# Altium schematic symbol library SamacSys_Parts.SchLib: 11 symbols
Pins are listed as number, name and electrical type; pins without a type are passive.

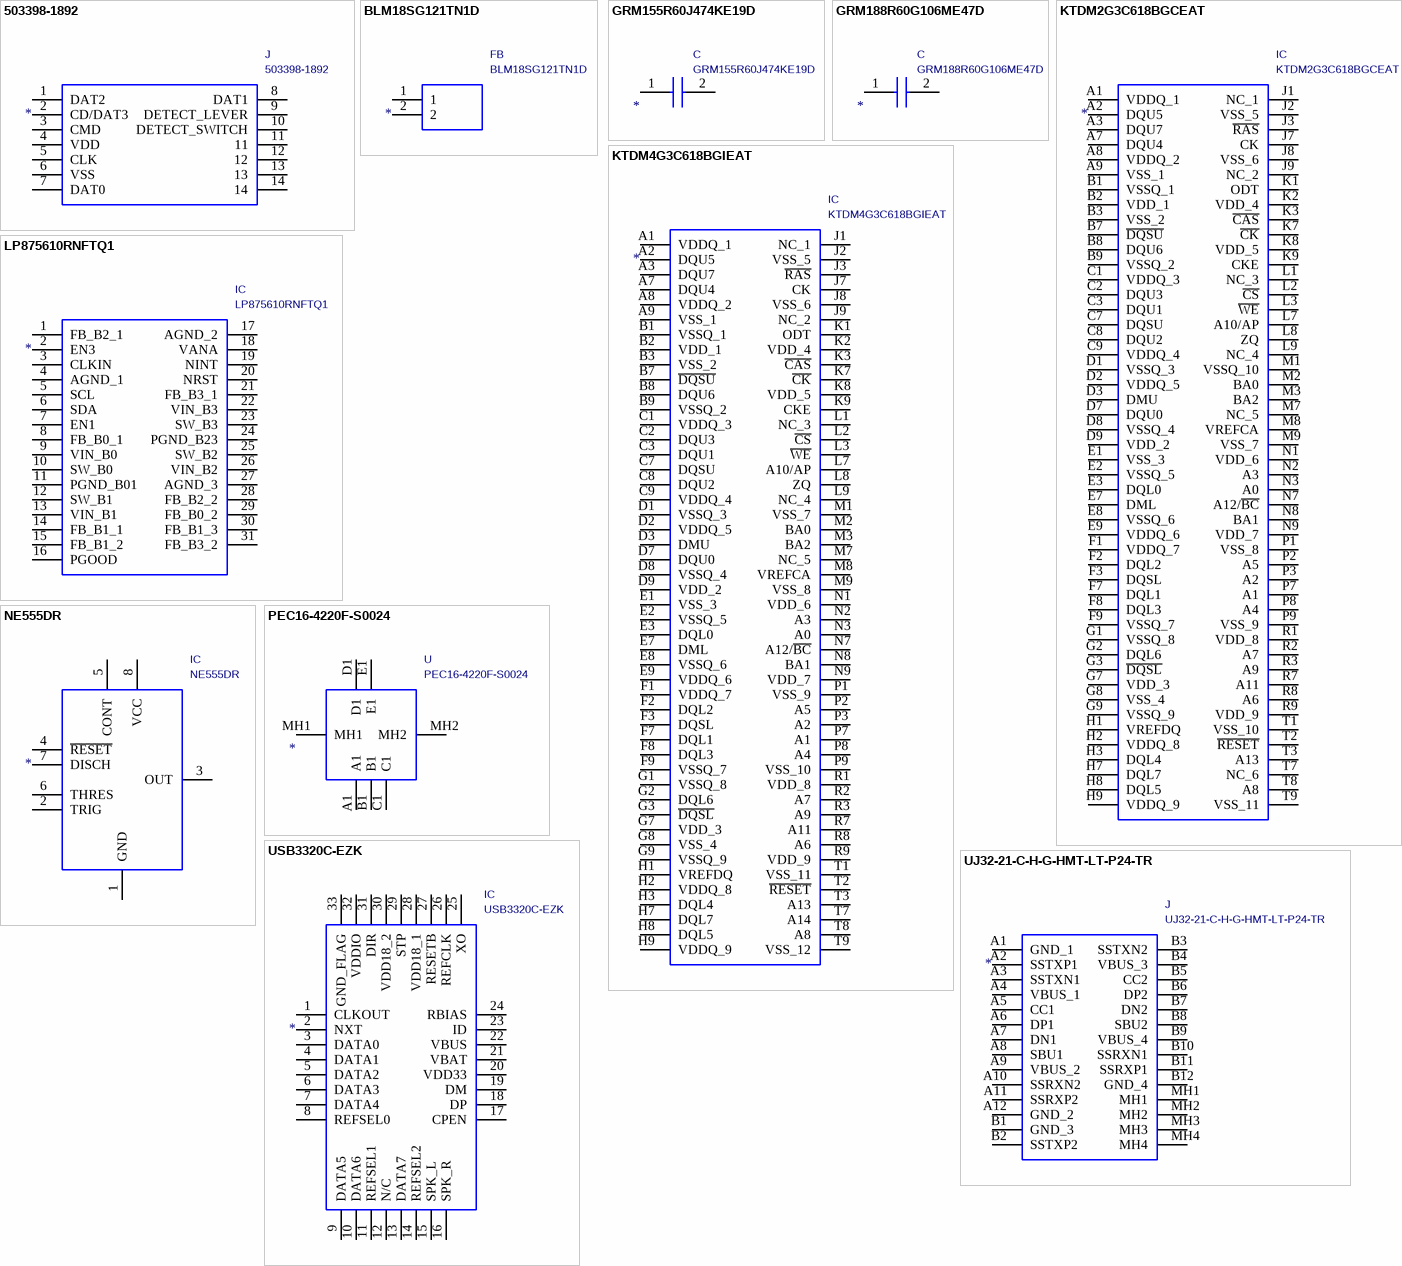
[diagram p0: symbols 503398-1892 to USB3320C-EZK]

## 503398-1892
designator J  value 503398-1892
MicroSD SMT Push-Push 1.28mm height MicroSD SMT Push-Push 1.28mm height; Manufacturer_Name: Molex; Footprint: 5033981892; Supplier: http://www.molex.com/webdocs/datasheets/pdf/en-us//5033981892_MEMORY_CARD_SOCKET.pdf; Description_: MicroSD SMT Push-Push 1.28mm height MicroSD SMT Push-Push 1.28mm height; Height: 1.28; Mouser Part Number: 538-503398-1892; Mouser Price/Stock: https://www.mouser.co.uk/ProductDetail/Molex/503398-1892?qs=b0v8CoHHvSMxV%252BW12iKaSg%3D%3D; Manufacturer_Part_Number: 503398-1892
footprint 5033981892
pins: 1 DAT2, 2 CD/DAT3, 3 CMD, 4 VDD, 5 CLK, 6 VSS, 7 DAT0, 8 DAT1, 9 DETECT_LEVER, 10 DETECT_SWITCH, 11, 12, 13, 14

## BLM18SG121TN1D
designator FB  value BLM18SG121TN1D
Ferrite bead SMD 0603 120R 3A Murata Ferrite Bead (Chip Bead), 1.6 x 0.8 x 0.5mm (0603), 120 impedance at 100 MHz; Manufacturer_Name: Murata Electronics; Footprint: BLM18EG101TH1D; Supplier: http://www.murata.com/~/media/webrenewal/support/library/catalog/products/emc/emifil/c31e.ashx?la=en-gb; Description_: Ferrite bead SMD 0603 120R 3A Murata Ferrite Bead (Chip Bead), 1.6 x 0.8 x 0.5mm (0603), 120 impedance at 100 MHz; Height: 0.75; Mouser Part Number: 81-BLM18SG121TN1D; Mouser Price/Stock: https://www.mouser.co.uk/ProductDetail/Murata-Electronics/BLM18SG121TN1D?qs=OMB6gcCnelWdy%252B7xRA0fBw%3D%3D; Manufacturer_Part_Number: BLM18SG121TN1D
footprint BLM18EG101TH1D
pins: 1, 2

## GRM155R60J474KE19D
designator C  value GRM155R60J474KE19D
Cap, Ceramic,0402, 470nF 6.3V Murata 0402 GRM 470nF Ceramic Multilayer Capacitor, 6.3 V dc, +85C, X5R Dielectric, +/-10% SMD; Manufacturer_Name: Murata Electronics; Footprint: CAPC1005X70N; Supplier: https://search.murata.co.jp/Ceramy/image/img/A01X/G101/ENG/GRM155R60J474KE19-01A.pdf; Description_: Cap, Ceramic,0402, 470nF 6.3V Murata 0402 GRM 470nF Ceramic Multilayer Capacitor, 6.3 V dc, +85C, X5R Dielectric, +/-10% SMD; Height: 0.7; Mouser Part Number: 81-GRM155R60J474KE9D; Mouser Price/Stock: https://www.mouser.co.uk/ProductDetail/Murata-Electronics/GRM155R60J474KE19D?qs=5bAuhL3RhmN9%252Bhy3sCalLA%3D%3D; Manufacturer_Part_Number: GRM155R60J474KE19D
footprint CAPC1005X70N
pins: 1, 2

## GRM188R60G106ME47D
designator C  value GRM188R60G106ME47D
Murata 0603 GRM 10uF Ceramic Multilayer Capacitor, 4 V dc, +85C, X5R Dielectric, +/-20%; Manufacturer_Name: Murata Electronics; Footprint: CAPC1608X90N; Supplier: https://search.murata.co.jp/Ceramy/image/img/A01X/G101/ENG/GRM188R60G106ME47-01ZA.pdf; Description_: Murata 0603 GRM 10uF Ceramic Multilayer Capacitor, 4 V dc, +85C, X5R Dielectric, +/-20%; Height: 0.9; Mouser Part Number: 81-GRM188R60G106ME47; Mouser Price/Stock: https://www.mouser.co.uk/ProductDetail/Murata-Electronics/GRM188R60G106ME47D?qs=dddcrN876GrkTI%252BtNGmhwA%3D%3D; Manufacturer_Part_Number: GRM188R60G106ME47D
footprint CAPC1608X90N
pins: 1, 2

## KTDM2G3C618BGCEAT
designator IC  value KTDM2G3C618BGCEAT
2Gb DDR3 SDRAM 128Mbx16 96-FBGA Commercial Temp; Manufacturer_Name: SMARTsemi; Footprint: BGA96C80P9X16_750X1300X100; Supplier: https://smartsemi.staging.multicomma.com/wp-content/uploads/2022/07/SMARTsemi_DS_KTDM2G3C618BGxEAT_rev1.0.pdf; Description_: 2Gb DDR3 SDRAM 128Mbx16 96-FBGA Commercial Temp; Height: 1; Manufacturer_Part_Number: KTDM2G3C618BGCEAT
footprint BGA96C80P9X16_750X1300X100
pins: A1 VDDQ_1, A2 DQU5, A3 DQU7, A7 DQU4, A8 VDDQ_2, A9 VSS_1, B1 VSSQ_1, B2 VDD_1, B3 VSS_2, B7 ~{DQSU}, B8 DQU6, B9 VSSQ_2, C1 VDDQ_3, C2 DQU3, C3 DQU1, C7 DQSU, C8 DQU2, C9 VDDQ_4, D1 VSSQ_3, D2 VDDQ_5, D3 DMU, D7 DQU0, D8 VSSQ_4, D9 VDD_2, E1 VSS_3, E2 VSSQ_5, E3 DQL0, E7 DML, E8 VSSQ_6, E9 VDDQ_6, F1 VDDQ_7, F2 DQL2, F3 DQSL, F7 DQL1, F8 DQL3, F9 VSSQ_7, G1 VSSQ_8, G2 DQL6, G3 ~{DQSL}, G7 VDD_3, G8 VSS_4, G9 VSSQ_9, H1 VREFDQ, H2 VDDQ_8, H3 DQL4, H7 DQL7, H8 DQL5, H9 VDDQ_9, J1 NC_1, J2 VSS_5, J3 ~{RAS}, J7 CK, J8 VSS_6, J9 NC_2, K1 ODT, K2 VDD_4, K3 ~{CAS}, K7 ~{CK}, K8 VDD_5, K9 CKE, L1 NC_3, L2 ~{CS}, L3 ~{WE}, L7 A10/AP, L8 ZQ, L9 NC_4, M1 VSSQ_10, M2 BA0, M3 BA2, M7 NC_5, M8 VREFCA, M9 VSS_7, N1 VDD_6, N2 A3, N3 A0, N7 A12/~{BC}, N8 BA1, N9 VDD_7, P1 VSS_8, P2 A5, P3 A2, P7 A1, P8 A4, P9 VSS_9, R1 VDD_8, R2 A7, R3 A9, R7 A11, R8 A6, R9 VDD_9, T1 VSS_10, T2 ~{RESET}, T3 A13, T7 NC_6, T8 A8, T9 VSS_11

## KTDM4G3C618BGIEAT
designator IC  value KTDM4G3C618BGIEAT
4Gb DDR3 SDRAM 256Mbx16 96-FBGA Industrial Temp; Manufacturer_Name: SMARTsemi; Footprint: BGA96C80P9X16_750X1300X100; Supplier: https://smartsemi.staging.multicomma.com/wp-content/uploads/2022/07/SMARTsemi_DS_KTDM4G3C618BGxEAT_rev1.0.pdf; Description_: 4Gb DDR3 SDRAM 256Mbx16 96-FBGA Industrial Temp; Height: 1; Mouser Part Number: 473-M4G3C618BGIEAT; Mouser Price/Stock: https://www.mouser.co.uk/ProductDetail/SMARTsemi/KTDM4G3C618BGIEAT?qs=By6Nw2ByBD1H5%252BQ37Z8mNQ%3D%3D; Manufacturer_Part_Number: KTDM4G3C618BGIEAT
footprint BGA96C80P9X16_750X1300X100
pins: A1 VDDQ_1, A2 DQU5, A3 DQU7, A7 DQU4, A8 VDDQ_2, A9 VSS_1, B1 VSSQ_1, B2 VDD_1, B3 VSS_2, B7 ~{DQSU}, B8 DQU6, B9 VSSQ_2, C1 VDDQ_3, C2 DQU3, C3 DQU1, C7 DQSU, C8 DQU2, C9 VDDQ_4, D1 VSSQ_3, D2 VDDQ_5, D3 DMU, D7 DQU0, D8 VSSQ_4, D9 VDD_2, E1 VSS_3, E2 VSSQ_5, E3 DQL0, E7 DML, E8 VSSQ_6, E9 VDDQ_6, F1 VDDQ_7, F2 DQL2, F3 DQSL, F7 DQL1, F8 DQL3, F9 VSSQ_7, G1 VSSQ_8, G2 DQL6, G3 ~{DQSL}, G7 VDD_3, G8 VSS_4, G9 VSSQ_9, H1 VREFDQ, H2 VDDQ_8, H3 DQL4, H7 DQL7, H8 DQL5, H9 VDDQ_9, J1 NC_1, J2 VSS_5, J3 ~{RAS}, J7 CK, J8 VSS_6, J9 NC_2, K1 ODT, K2 VDD_4, K3 ~{CAS}, K7 ~{CK}, K8 VDD_5, K9 CKE, L1 NC_3, L2 ~{CS}, L3 ~{WE}, L7 A10/AP, L8 ZQ, L9 NC_4, M1 VSS_7, M2 BA0, M3 BA2, M7 NC_5, M8 VREFCA, M9 VSS_8, N1 VDD_6, N2 A3, N3 A0, N7 A12/~{BC}, N8 BA1, N9 VDD_7, P1 VSS_9, P2 A5, P3 A2, P7 A1, P8 A4, P9 VSS_10, R1 VDD_8, R2 A7, R3 A9, R7 A11, R8 A6, R9 VDD_9, T1 VSS_11, T2 ~{RESET}, T3 A13, T7 A14, T8 A8, T9 VSS_12

## LP875610RNFTQ1
designator IC  value LP875610RNFTQ1
Four-phase 16-A buck converter with integrated switches; Manufacturer_Name: Texas Instruments; Footprint: LP87524TRNFRQ1; Supplier: http://www.ti.com/lit/gpn/LP87561-Q1; Description_: Four-phase 16-A buck converter with integrated switches; Height: 0.9; Manufacturer_Part_Number: LP875610RNFTQ1; Mouser Part Number: 595-LP875610RNFTQ1; Mouser Price/Stock: https://www.mouser.co.uk/ProductDetail/Texas-Instruments/LP875610RNFTQ1?qs=gZXFycFWdANDzNJ%2FVznnWQ%3D%3D
footprint LP87524TRNFRQ1
pins: 1 FB_B2_1, 2 EN3, 3 CLKIN, 4 AGND_1, 5 SCL, 6 SDA, 7 EN1, 8 FB_B0_1, 9 VIN_B0, 10 SW_B0, 11 PGND_B01, 12 SW_B1, 13 VIN_B1, 14 FB_B1_1, 15 FB_B1_2, 16 PGOOD, 17 AGND_2, 18 VANA, 19 NINT, 20 NRST, 21 FB_B3_1, 22 VIN_B3, 23 SW_B3, 24 PGND_B23, 25 SW_B2, 26 VIN_B2, 27 AGND_3, 28 FB_B2_2, 29 FB_B0_2, 30 FB_B1_3, 31 FB_B3_2

## NE555DR
designator IC  value NE555DR
Single Precision Timer; Manufacturer_Name: Texas Instruments; Footprint: SOIC127P600X175-8N; Supplier: http://www.ti.com/lit/ds/symlink/ne555.pdf; Description_: Single Precision Timer; Height: 1.75; Manufacturer_Part_Number: NE555DR; Mouser Part Number: 595-NE555DR; Mouser Price/Stock: https://www.mouser.com/Search/Refine.aspx?Keyword=595-NE555DR; RS Part Number: 1218414; RS Price/Stock: http//uk.rs-online.com/web/p/products/1218414
footprint SOIC127P600X175-8N
pins: 1 GND, 2 TRIG, 3 OUT, 4 ~{RESET}, 5 CONT, 6 THRES, 7 DISCH, 8 VCC

## PEC16-4220F-S0024
designator U  value PEC16-4220F-S0024
Bourns Encoder 24ppr ppr 5 V dc; Footprint: PEC164120FS0012; Supplier: https://www.bourns.com/pdfs/PEC16.pdf; Description_: Bourns Encoder 24ppr ppr 5 V dc; Height: 28; Mouser Part Number: 652-PEC16-4220FS0024; Mouser Price/Stock: https://www.mouser.co.uk/ProductDetail/Bourns/PEC16-4220F-S0024?qs=6FD5PBp7ZtQte%252Bg7b%2FiMUw%3D%3D; Manufacturer_Name: Bourns; Manufacturer_Part_Number: PEC16-4220F-S0024
footprint PEC164120FS0012
pins: A1, B1, C1, D1, E1, MH1, MH2

## UJ32-21-C-H-G-HMT-LT-P24-TR
designator J  value UJ32-21-C-H-G-HMT-LT-P24-TR
Type C, USB 3.2 Gen 2x1, 10 Gbps, 20 Vdc, 5 A, Horizontal, Hybrid Mount, Long Anchor Pins, Hybrid Contacts, Gold Flash, 24 Pins, USB Receptacle; Manufacturer_Name: Same Sky; Footprint: UJ3221CHGHMTLTP24TR; Supplier: https://www.sameskydevices.com/product/resource/uj32-21-c-h-g-hmt-lt-p24-tr.pdf; Description_: Type C, USB 3.2 Gen 2x1, 10 Gbps, 20 Vdc, 5 A, Horizontal, Hybrid Mount, Long Anchor Pins, Hybrid Contacts, Gold Flash, 24 Pins, USB Receptacle; Height: 3.51; Manufacturer_Part_Number: UJ32-21-C-H-G-HMT-LT-P24-TR
footprint UJ3221CHGHMTLTP24TR
pins: A1 GND_1, A2 SSTXP1, A3 SSTXN1, A4 VBUS_1, A5 CC1, A6 DP1, A7 DN1, A8 SBU1, A9 VBUS_2, A10 SSRXN2, A11 SSRXP2, A12 GND_2, B1 GND_3, B2 SSTXP2, B3 SSTXN2, B4 VBUS_3, B5 CC2, B6 DP2, B7 DN2, B8 SBU2, B9 VBUS_4, B10 SSRXN1, B11 SSRXP1, B12 GND_4, MH1, MH2, MH3, MH4

## USB3320C-EZK
designator IC  value USB3320C-EZK
USB Interface IC Hi-Speed USB 2.0 ESD +30V Vbus; Manufacturer_Name: Microchip; Footprint: QFN50P500X500X100-33N-D; Supplier: https://componentsearchengine.com/Datasheets/2/USB3320C-EZK.pdf; Description_: USB Interface IC Hi-Speed USB 2.0 ESD +30V Vbus; Height: 1; Mouser Part Number: 886-USB3320C-EZK; Mouser Price/Stock: https://www.mouser.co.uk/ProductDetail/Microchip-Technology/USB3320C-EZK?qs=pA5MXup5wxEV58aAJyVneA%3D%3D; Manufacturer_Part_Number: USB3320C-EZK
footprint QFN50P500X500X100-33N-D
pins: 1 CLKOUT, 2 NXT, 3 DATA0, 4 DATA1, 5 DATA2, 6 DATA3, 7 DATA4, 8 REFSEL0, 9 DATA5, 10 DATA6, 11 REFSEL1, 12 N/C, 13 DATA7, 14 REFSEL2, 15 SPK_L, 16 SPK_R, 17 CPEN, 18 DP, 19 DM, 20 VDD33, 21 VBAT, 22 VBUS, 23 ID, 24 RBIAS, 25 XO, 26 REFCLK, 27 RESETB, 28 VDD18_1, 29 STP, 30 VDD18_2, 31 DIR, 32 VDDIO, 33 GND_FLAG